# Altium footprint library PcbLib2.PcbLib: 2 footprints
Each footprint in its own frame and in the unit in brackets; x right, y up, seen from the top. Pads: shape width x height; smd on the part's side, far side on the other; paste and mask are expansions set on the pad; w line width, h text height; cw(c..) or ccw(c..) is an arc to the next point about the centre after c.
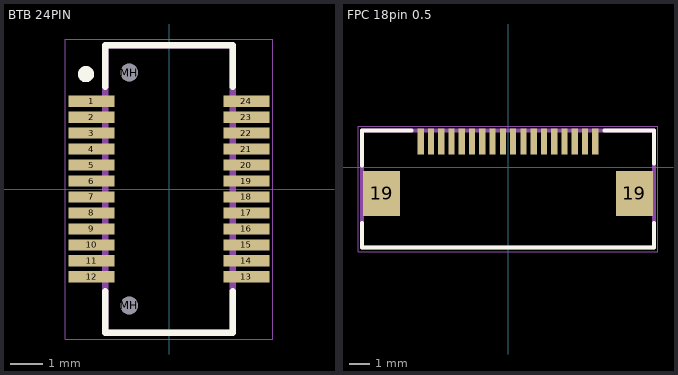
[diagram p0: the footprints below, top view; thin cyan lines are the x and y axes]

## BTB 24PIN [mm] "OCN OK-208GF024-05"
pads (26):
  rect 1.45x0.35 smd: 1(-2.425,2.75) 2(-2.425,2.25) 3(-2.425,1.75) 4(-2.425,1.25) 5(-2.425,0.75) 6(-2.425,0.25) 7(-2.425,-0.25) 8(-2.425,-0.75) 9(-2.425,-1.25) 10(-2.425,-1.75) 11(-2.425,-2.25) 12(-2.425,-2.75) 13(2.425,-2.75) 14(2.425,-2.25) 15(2.425,-1.75) 16(2.425,-1.25) 17(2.425,-0.75) 18(2.425,-0.25) 19(2.425,0.25) 20(2.425,0.75) 21(2.425,1.25) 22(2.425,1.75) 23(2.425,2.25) 24(2.425,2.75)
  round 0.55 hole 0.55 unplated paste+0 mask+0: MH(-1.25,3.65) MH(-1.25,-3.65)
Top Overlay:
  circle w0.254: c-2.6,3.6 r0.127
  lines w0.2: -2,-3.2 -2,-4.5 2,-4.5 2,-3.2 ; -2,3.2 -2,4.5 2,4.5 2,3.2
Top Assembly:
  lines w0.2: 2,-4.5 -2,-4.5 -2,4.5 2,4.5 2,-4.5 ; 2,-4.5 2,-4.5
  text "'.Designator'" at 0.442,-1.425 h1
Top Courtyard:
  lines w0.01: -3.25,-4.7 3.25,-4.7 3.25,4.7 -3.25,4.7 -3.25,-4.7
3D body: height 3, standoff 0, extent -2,-4.5 2,4.5

## FPC 18pin 0.5 [mm] "HDGC 0.5K-DX-18PWB"
height 8.54
pads (20):
  rect 0.3x1.25 smd: 1(-4.25,1.262) 2(-3.75,1.262) 3(-3.25,1.262) 4(-2.75,1.262) 5(-2.25,1.262) 6(-1.75,1.262) 7(-1.25,1.262) 8(-0.75,1.262) 9(-0.25,1.262) 10(0.25,1.262) 11(0.75,1.262) 12(1.25,1.262) 13(1.75,1.262) 14(2.25,1.262) 15(2.75,1.262) 16(3.25,1.262) 17(3.75,1.262) 18(4.25,1.262)
  rect 1.8x2.2 smd: 19(-6.15,-1.262) 19(6.15,-1.262)
Top Overlay:
  lines w0.2: -7.1,-2.7 -7.1,-3.9 7.1,-3.9 7.1,-2.7 ; -7.1,0.1 -7.1,1.8 -4.7,1.8 ; 4.7,1.8 7.1,1.8 7.1,0.2
Top Assembly:
  lines w0.2: -7.1,-3.9 7.1,-3.9 7.1,1.8 -7.1,1.8 -7.1,-3.9
  text "'.Designator'" at -3.825,-1.542 h1
Top Courtyard:
  lines w0.01: -7.3,-4.1 7.3,-4.1 7.3,2 -7.3,2 -7.3,-4.1
3D body: height 2, standoff 0, extent -7.2,-4 7.2,1.2